# Altium footprint library CUI_SJ-3523-SMT.PcbLib: 1 footprints
Each footprint in its own frame and in the unit in brackets; x right, y up, seen from the top. Pads: shape width x height; smd on the part's side, far side on the other; paste and mask are expansions set on the pad; w line width, h text height; cw(c..) or ccw(c..) is an arc to the next point about the centre after c.
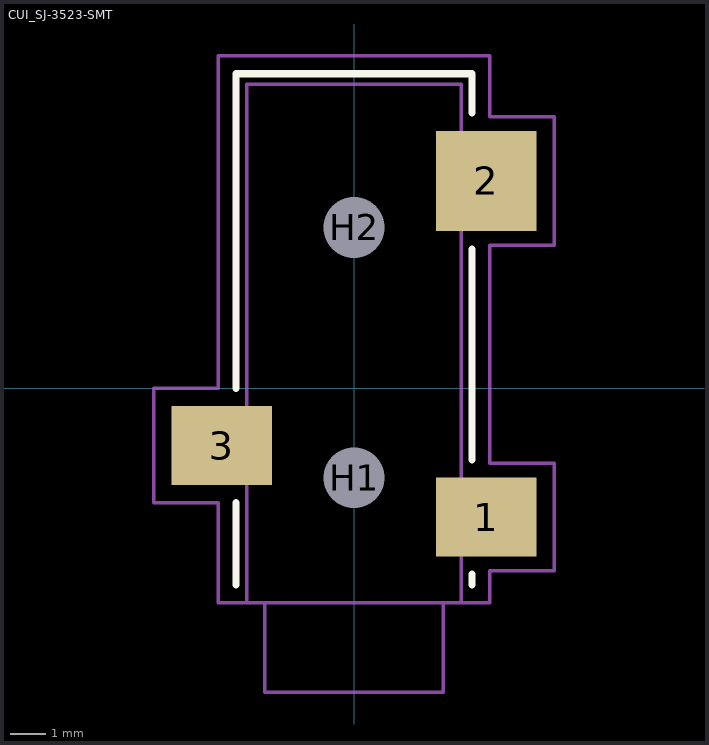
[diagram p0: the footprint, top view; thin cyan lines are the x and y axes]

## CUI_SJ-3523-SMT [mm]
pads (5):
  rect 2.8x2.2 smd: 1(3.7,-3.6) 3(-3.7,-1.6)
  rect 2.8x2.8 smd: 2(3.7,5.8)
  round 1.6 hole 1.7 unplated paste+0 mask+0.2: H1(0,-2.5) H2(0,4.5)
Top Overlay:
  lines w0.2: -3.3,-5.5 -3.3,-3.2 ; -3.3,0 -3.3,8.8 3.3,8.8 3.3,7.7 ; 3.3,-5.5 3.3,-5.2 ; 3.3,-2 3.3,3.9
Mechanical 13:
  lines w0.1: -2.5,-6 -2.5,-8.5 2.5,-8.5 2.5,-6 ; -3,-6 3,-6 3,8.5 -3,8.5 -3,-6
Mechanical 15:
  lines w0.1: -5.6,-3.2 -5.6,0 -3.8,0 -3.8,9.3 3.8,9.3 3.8,7.6 5.6,7.6 5.6,4 3.8,4 3.8,-2.1 5.6,-2.1 5.6,-5.1 3.8,-5.1 3.8,-6 -3.8,-6 -3.8,-3.2 -5.6,-3.2
3D body: height 5.1, standoff -0.7, extent -5,-8.5 5,8.5